# EAGLE library part MAX16054AZT+T (library maximparts)
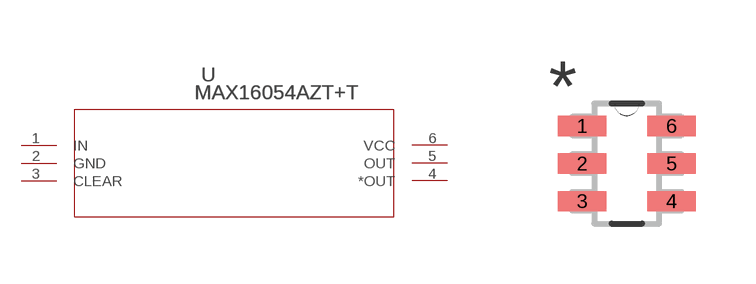
[diagram p3: symbol with the pads of 21-0114C; footprint 21-0114C]

Designator prefix U

## MAX16054AZT+T (MANUFACTURER_NAME: Maxim; MANUFACTURER_PART_NUMBER: MAX16054AZT+T; VENDOR: Maxim)  [21-0114C]
1  IN  in
2  GND  pwr
3  CLEAR
4  *OUT  out
5  OUT  out
6  VCC  pwr

## Footprint 21-0114C (pad centres in mm)
smd 1.219 x 0.508: 1 -1.118,0.94; 2 -1.118,0; 3 -1.118,-0.94; 4 1.118,-0.94; 5 1.118,0; 6 1.118,0.94